# EAGLE library part BSV236SP (library transistor-fet_edited)
OptiMOS(R)-P Small-Signal-Transistor P-Channel, Enhancement mode, Super Logic Level (2.5 V rated) Source: http://www.infineon.com/upload/Document/BSV236SP_Rev1.3.pdf
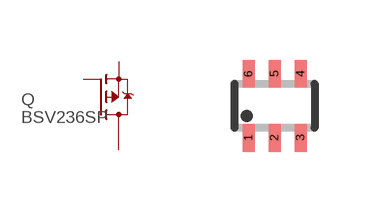
[diagram p3: symbol with the pads of SOT363_INFINEON; footprint SOT363_INFINEON]

Designator prefix Q

## BSV236SP  [SOT363_INFINEON]
1  D  pas
2  D  pas
3  G  pas
4  S  pas
5  D  pas
6  D  pas

## Footprint SOT363_INFINEON (pad centres in mm)
Small Outline Transistor; 6 leads Reflow soldering INFINEON, www.infineon.com/cmc_upload/0/000/010/257/eh_db_5b.pdf
smd 0.3 x 0.7: 1 -0.65,-0.8; 2 0,-0.8; 3 0.65,-0.8; 4 0.65,0.8; 5 0,0.8; 6 -0.65,0.8